# EAGLE library part F-2X12- (library con-headers-jp)
FEMALE HEADER
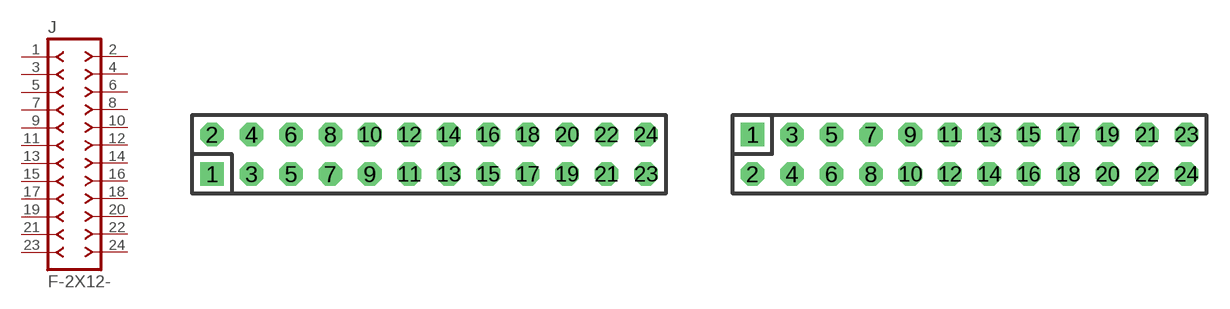
[diagram p44: symbol with the pads of DIL-100-2X12; footprints DIL-100-2X12, DIL-100-2X12_M]

Designator prefix J

## F-2X12-DIL-100  [DIL-100-2X12]
1  1  pas
2  2  pas
3  3  pas
4  4  pas
5  5  pas
6  6  pas
7  7  pas
8  8  pas
9  9  pas
10  10  pas
11  11  pas
12  12  pas
13  13  pas
14  14  pas
15  15  pas
16  16  pas
17  17  pas
18  18  pas
19  19  pas
20  20  pas
21  21  pas
22  22  pas
23  23  pas
24  24  pas

## F-2X12-DIL-100_M  [DIL-100-2X12_M]
Pads as for DIL-100-2X12

## F-2X12-DIL-2MM  [DIL-2MM-2X12]
Pads as for DIL-100-2X12

## F-2X12-DIL-2MM_M  [DIL-2MM-2X12_M]
Pads as for DIL-100-2X12

## F-2X12-71991  [71991-24]
Pads as for DIL-100-2X12

## F-2X12-79107  [79107-24]
Pads as for DIL-100-2X12

## F-2X12-79107_M  [79107-24_M]
Pads as for DIL-100-2X12

## Footprint DIL-100-2X12 (pad centres in mm)
PIN HEADER - 0.1"
drill 1.016 square: 1 -13.97,-1.27
drill 1.016 octagon: 2 -13.97,1.27; 3 -11.43,-1.27; 4 -11.43,1.27; 5 -8.89,-1.27; 6 -8.89,1.27; 7 -6.35,-1.27; 8 -6.35,1.27; 9 -3.81,-1.27; 10 -3.81,1.27; 11 -1.27,-1.27; 12 -1.27,1.27; 13 1.27,-1.27; 14 1.27,1.27; 15 3.81,-1.27; 16 3.81,1.27; 17 6.35,-1.27; 18 6.35,1.27; 19 8.89,-1.27; 20 8.89,1.27; 21 11.43,-1.27; 22 11.43,1.27; 23 13.97,-1.27; 24 13.97,1.27

## Footprint DIL-100-2X12_M (pad centres in mm)
PIN HEADER - MIRRORED 0.1"
drill 1.016 square: 1 -13.97,1.27
drill 1.016 octagon: 2 -13.97,-1.27; 3 -11.43,1.27; 4 -11.43,-1.27; 5 -8.89,1.27; 6 -8.89,-1.27; 7 -6.35,1.27; 8 -6.35,-1.27; 9 -3.81,1.27; 10 -3.81,-1.27; 11 -1.27,1.27; 12 -1.27,-1.27; 13 1.27,1.27; 14 1.27,-1.27; 15 3.81,1.27; 16 3.81,-1.27; 17 6.35,1.27; 18 6.35,-1.27; 19 8.89,1.27; 20 8.89,-1.27; 21 11.43,1.27; 22 11.43,-1.27; 23 13.97,1.27; 24 13.97,-1.27

## Footprint DIL-2MM-2X12 (pad centres in mm)
PIN HEADER - 2MM"
drill 0.711 square: 1 -11,-1
drill 0.711 round: 2 -11,1; 3 -9,-1; 4 -9,1; 5 -7,-1; 6 -7,1; 7 -5,-1; 8 -5,1; 9 -3,-1; 10 -3,1; 11 -1,-1; 12 -1,1; 13 1,-1; 14 1,1; 15 3,-1; 16 3,1; 17 5,-1; 18 5,1; 19 7,-1; 20 7,1; 21 9,-1; 22 9,1; 23 11,-1; 24 11,1

## Footprint DIL-2MM-2X12_M (pad centres in mm)
PIN HEADER - MIRRORED 2MM
drill 0.711 square: 1 -11,1
drill 0.711 round: 2 -11,-1; 3 -9,1; 4 -9,-1; 5 -7,1; 6 -7,-1; 7 -5,1; 8 -5,-1; 9 -3,1; 10 -3,-1; 11 -1,1; 12 -1,-1; 13 1,1; 14 1,-1; 15 3,1; 16 3,-1; 17 5,1; 18 5,-1; 19 7,1; 20 7,-1; 21 9,1; 22 9,-1; 23 11,1; 24 11,-1

## Footprint 71991-24 (pad centres in mm)
FCI - Dual Entry Female Pass Through, 0.1" spacing
drill 0.813 square: 1 -13.97,-3.81
drill 0.813 octagon: 2 -13.97,3.81; 3 -11.43,-3.81; 4 -11.43,3.81; 5 -8.89,-3.81; 6 -8.89,3.81; 7 -6.35,-3.81; 8 -6.35,3.81; 9 -3.81,-3.81; 10 -3.81,3.81; 11 -1.27,-3.81; 12 -1.27,3.81; 13 1.27,-3.81; 14 1.27,3.81; 15 3.81,-3.81; 16 3.81,3.81; 17 6.35,-3.81; 18 6.35,3.81; 19 8.89,-3.81; 20 8.89,3.81; 21 11.43,-3.81; 22 11.43,3.81; 23 13.97,-3.81; 24 13.97,3.81
hole 1.422 at -13.97,-1.27
hole 1.422 at -13.97,1.27
hole 1.422 at -11.43,1.27
hole 1.422 at -11.43,-1.27
hole 1.422 at -8.89,1.27
hole 1.422 at -8.89,-1.27
hole 1.422 at -6.35,1.27
hole 1.422 at -6.35,-1.27
hole 1.422 at -3.81,1.27
hole 1.422 at -3.81,-1.27
hole 1.422 at -1.27,1.27
hole 1.422 at -1.27,-1.27
hole 1.422 at 1.27,1.27
hole 1.422 at 1.27,-1.27
hole 1.422 at 3.81,1.27
hole 1.422 at 3.81,-1.27
hole 1.422 at 6.35,1.27
hole 1.422 at 6.35,-1.27
hole 1.422 at 8.89,1.27
hole 1.422 at 8.89,-1.27
hole 1.422 at 11.43,1.27
hole 1.422 at 11.43,-1.27
hole 1.422 at 13.97,1.27
hole 1.422 at 13.97,-1.27

## Footprint 79107-24 (pad centres in mm)
Molex Board-To-Board Receptacal 2.00mm (.079") Pitch Milli-Grid Header, Vertical, Through-Hole Mates with: 87759, 87762, 87758, 87760
drill 0.711 square: 1 -11,-1
drill 0.711 round: 2 -11,1; 3 -9,-1; 4 -9,1; 5 -7,-1; 6 -7,1; 7 -5,-1; 8 -5,1; 9 -3,-1; 10 -3,1; 11 -1,-1; 12 -1,1; 13 1,-1; 14 1,1; 15 3,-1; 16 3,1; 17 5,-1; 18 5,1; 19 7,-1; 20 7,1; 21 9,-1; 22 9,1; 23 11,-1; 24 11,1

## Footprint 79107-24_M (pad centres in mm)
Molex Board-To-Board Receptacal - MIRRORED 2.00mm (.079") Pitch Milli-Grid Header, Vertical, Through-Hole Mates with: 87759, 87762, 87758, 87760
drill 0.711 square: 1 -11,1
drill 0.711 round: 2 -11,-1; 3 -9,1; 4 -9,-1; 5 -7,1; 6 -7,-1; 7 -5,1; 8 -5,-1; 9 -3,1; 10 -3,-1; 11 -1,1; 12 -1,-1; 13 1,1; 14 1,-1; 15 3,1; 16 3,-1; 17 5,1; 18 5,-1; 19 7,1; 20 7,-1; 21 9,1; 22 9,-1; 23 11,1; 24 11,-1